# Altium schematic symbol library Schematic_MCU.SchLib: 7 symbols
Pins are listed as number, name and electrical type; pins without a type are passive.

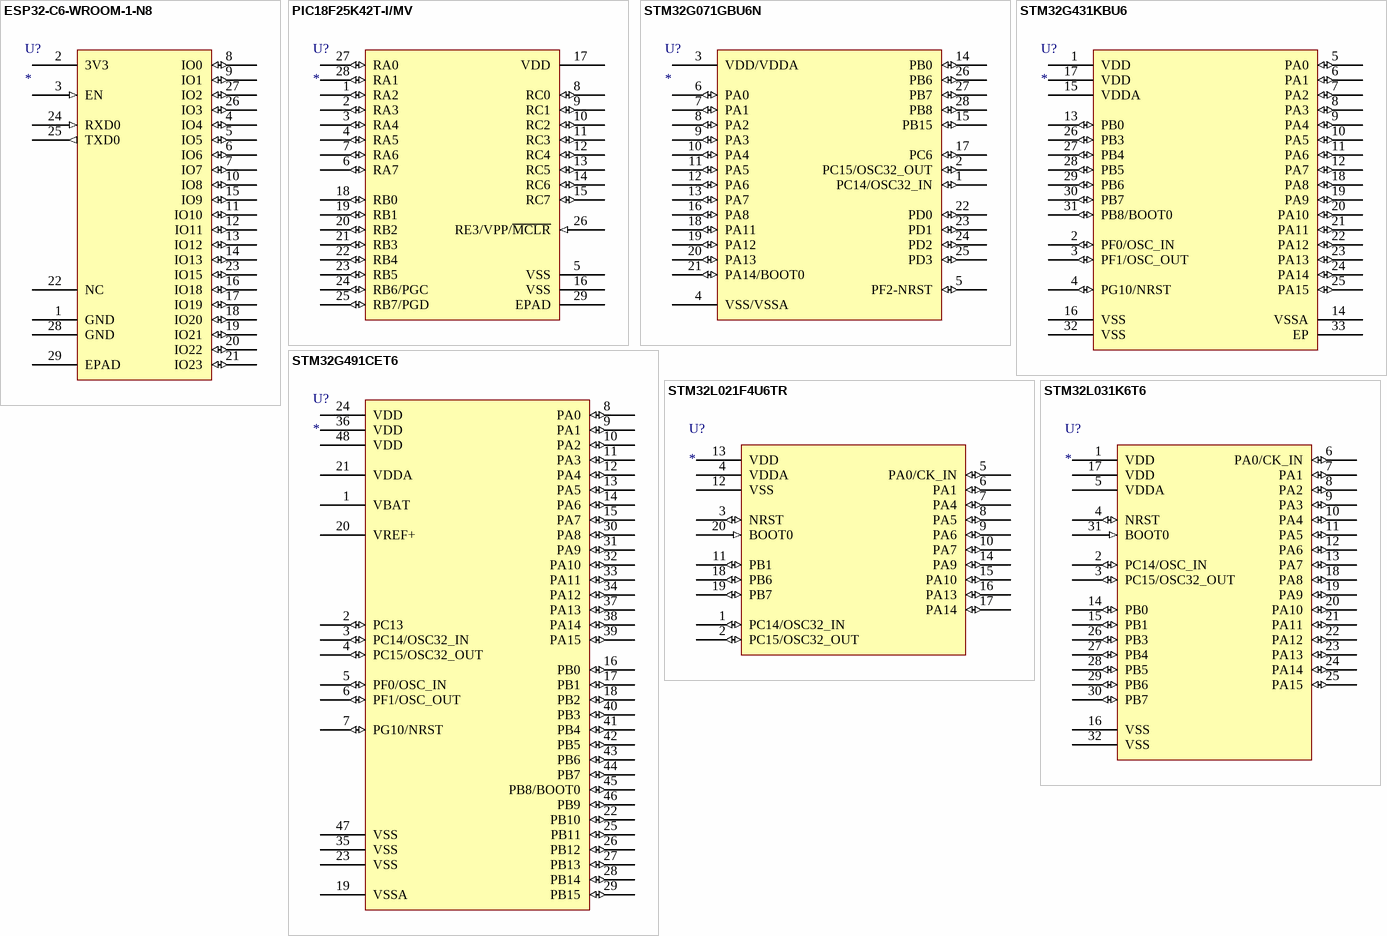
[diagram p0: symbols ESP32-C6-WROOM-1-N8 to STM32L031K6T6]

## ESP32-C6-WROOM-1-N8
designator U?
WiFi-Module 802.11 2, 4GHz 150Mb/s; Manufacturer: Espressif Systems; Manufacturer Part Number: ESP32-C6-WROOM-1-N8; Supplier: DigiKey; Supplier Part Number: 1965-ESP32-C6-WROOM-1-N8CT-ND; Category: RF Transceiver Modules and Modems; Stock: 595; Pricing: 1=5.38, 10=4.66, 25=4.4084, 100=4.0625, 250=3.85516 (USD); ComponentLink1URL: https://datasheet.octopart.com:443/ESP32-C6-WROOM-1-N8-Espressif-Systems-datasheet-188867345.pdf?src-supplier=TME; ComponentLink1Description: https://datasheet.octopart.com:443/ESP32-C6-WROOM-1-N8-Espressif-Systems-datasheet-188867345.pdf?src-supplier=TME; ComponentLink2URL: https://datasheet.octopart.com:443/ESP32-C6-WROOM-1-N8-Espressif-Systems-datasheet-188867343.pdf?src-supplier=TME; ComponentLink2Description: https://datasheet.octopart.com:443/ESP32-C6-WROOM-1-N8-Espressif-Systems-datasheet-188867343.pdf?src-supplier=TME; ComponentLink3URL: https://datasheet.octopart.com:443/ESP32-C6-WROOM-1-N8-Espressif-Systems-datasheet-176782707.pdf?src-supplier=SOS+electronic; ComponentLink3Description: https://datasheet.octopart.com:443/ESP32-C6-WROOM-1-N8-Espressif-Systems-datasheet-176782707.pdf?src-supplier=SOS+electronic
footprint ESP32-C6-WROOM-1
pins: 1 GND (power), 2 3V3 (power), 3 EN (in), 4 IO4 (io), 5 IO5 (io), 6 IO6 (io), 7 IO7 (io), 8 IO0 (io), 9 IO1 (io), 10 IO8 (io), 11 IO10 (io), 12 IO11 (io), 13 IO12 (io), 14 IO13 (io), 15 IO9 (io), 16 IO18 (io), 17 IO19 (io), 18 IO20 (io), 19 IO21 (io), 20 IO22 (io), 21 IO23 (io), 22 NC, 23 IO15 (io), 24 RXD0 (in), 25 TXD0 (out), 26 IO3 (io), 27 IO2 (io), 28 GND (power), 29 EPAD

## PIC18F25K42T-I/MV
designator U?
IC MCU 8BIT 32KB FLASH 28UQFN; Manufacturer: Microchip; Manufacturer Part Number: PIC18F25K42T-I/MV; Supplier 1: Digi-Key; RoHS: No; Category: Microcontrollers; Stock 1: 180; Pricing 1: 1=1.62000, 25=1.48000, 100=1.34000 (USD)
footprint QFN40P400X400X55_HS-29N (QFN, 28-Leads, Body 4.00x4.00mm, Pitch 0.40mm, Thermal Pad 2.35x2.35mm, IPC Medium Density)
pins: 1 RA2 (io), 2 RA3 (io), 3 RA4 (io), 4 RA5 (io), 5 VSS (power), 6 RA7 (io), 7 RA6 (io), 8 RC0 (io), 9 RC1 (io), 10 RC2 (io), 11 RC3 (io), 12 RC4 (io), 13 RC5 (io), 14 RC6 (io), 15 RC7 (io), 16 VSS (power), 17 VDD (power), 18 RB0 (io), 19 RB1 (io), 20 RB2 (io), 21 RB3 (io), 22 RB4 (io), 23 RB5 (io), 24 RB6/PGC (io), 25 RB7/PGD (io), 26 RE3/VPP/~{MCLR} (in), 27 RA0 (io), 28 RA1 (io), 29 EPAD

## STM32G071GBU6N
designator U?
16/32-BITS MICROS; Manufacturer: STMicroelectronics; Manufacturer Part Number: STM32G071GBU6N; Interface: I2C,SPI,USB,HDMI,IrDA,UART,USART; Peripherals: Brown-out Detect/Reset,POR,PWM,WDT,DMA; Memory Type: FLASH; Core Architecture: ARM; Frequency: 64MHz; Number of I/Os: 26; Memory Size: 128KB; Oscillator Type: Internal; Supplier 1: Digi-Key; RoHS: No; Stock 1: 1441; Pricing 1: 1=2.70000, 10=2.42100, 25=2.28880, 100=1.98350, 250=1.88184, 500=1.68856, 1000=1.42408, 2500=1.35288, 5000=1.30202 (USD); Case/Package: UFQFPN; Number of Pins: 28; Min Operating Temperature: -40°C; Max Operating Temperature: 85°C; Packaging: Tape and Reel; ComponentLink1URL: https://www.st.com/resource/en/datasheet/stm32g071cb.pdf?src-supplier=Digi-Key; ComponentLink1Description: https://www.st.com/resource/en/datasheet/stm32g071cb.pdf?src-supplier=Digi-Key
footprint QFN50P400X400X60-28N (QFN, 28-Leads, Body 4.00x4.00mm, Pitch 0.50mm, IPC Medium Density)
pins: 1 PC14/OSC32_IN (io), 2 PC15/OSC32_OUT (io), 3 VDD/VDDA (power), 4 VSS/VSSA (power), 5 PF2-NRST (io), 6 PA0 (io), 7 PA1 (io), 8 PA2 (io), 9 PA3 (io), 10 PA4 (io), 11 PA5 (io), 12 PA6 (io), 13 PA7 (io), 14 PB0 (io), 15 PB15 (io), 16 PA8 (io), 17 PC6 (io), 18 PA11 (io), 19 PA12 (io), 20 PA13 (io), 21 PA14/BOOT0 (io), 22 PD0 (io), 23 PD1 (io), 24 PD2 (io), 25 PD3 (io), 26 PB6 (io), 27 PB7 (io), 28 PB8 (io)

## STM32G431KBU6
designator U?
MCU 32-Bit ARM Cortex-M4 RISC 128KB Flash 1.71V to 3.6V 32-Pin UFQFPN; Manufacturer: STMicroelectronics; Manufacturer Part Number: STM32G431KBU6; Supplier 1: Digi-Key; RoHS: No; Stock 1: 2759; Pricing 1: 1=4.44000, 10=3.99100, 25=3.77320, 100=3.27000, 250=3.10228, 500=2.78366, 1000=2.34766, 2500=2.23028, 5000=2.14643 (USD)
footprint QFN50P500X500X60_HS-33N (QFN, 32-Leads, Body 5.00x5.00mm, Pitch 0.50mm, Thermal Pad 3.45x3.45mm, IPC Medium Density)
pins: 1 VDD (power), 2 PF0/OSC_IN (io), 3 PF1/OSC_OUT (io), 4 PG10/NRST (io), 5 PA0 (io), 6 PA1 (io), 7 PA2 (io), 8 PA3 (io), 9 PA4 (io), 10 PA5 (io), 11 PA6 (io), 12 PA7 (io), 13 PB0 (io), 14 VSSA (power), 15 VDDA (power), 16 VSS (power), 17 VDD (power), 18 PA8 (io), 19 PA9 (io), 20 PA10 (io), 21 PA11 (io), 22 PA12 (io), 23 PA13 (io), 24 PA14 (io), 25 PA15 (io), 26 PB3 (io), 27 PB4 (io), 28 PB5 (io), 29 PB6 (io), 30 PB7 (io), 31 PB8/BOOT0 (io), 32 VSS (power), 33 EP

## STM32G491CET6
designator U?
MCU 32-Bit ARM Cortex-M4 RISC 512kByte Flash 1.71V to 3.6V 48-Pin LQFP Tray; Manufacturer: STMicroelectronics; Manufacturer Part Number: STM32G491CET6; Supplier 1: Avnet; RoHS: No; Category: Microcontrollers; Stock 1: 340; Pricing 1: 1=8.55, 10=6.92, 25=6.13, 50=6.03, 100=5.93 (USD); ComponentLink1URL: https://datasheet.octopart.com/STM32G491CET6-STMicroelectronics-datasheet-151949616.pdf?src-supplier=Future+Electronics; ComponentLink1Description: https://datasheet.octopart.com/STM32G491CET6-STMicroelectronics-datasheet-151949616.pdf?src-supplier=Future+Electronics
footprint TSQFP50P900X900X160-48N (TSQFP, 48-Leads, Body 7.00x7.00mm, Pitch 0.50mm, IPC Medium Density)
pins: 1 VBAT (power), 2 PC13 (io), 3 PC14/OSC32_IN (io), 4 PC15/OSC32_OUT (io), 5 PF0/OSC_IN (io), 6 PF1/OSC_OUT (io), 7 PG10/NRST (io), 8 PA0 (io), 9 PA1 (io), 10 PA2 (io), 11 PA3 (io), 12 PA4 (io), 13 PA5 (io), 14 PA6 (io), 15 PA7 (io), 16 PB0 (io), 17 PB1 (io), 18 PB2 (io), 19 VSSA (power), 20 VREF+ (power), 21 VDDA (power), 22 PB10 (io), 23 VSS (power), 24 VDD (power), 25 PB11 (io), 26 PB12 (io), 27 PB13 (io), 28 PB14 (io), 29 PB15 (io), 30 PA8 (io), 31 PA9 (io), 32 PA10 (io), 33 PA11 (io), 34 PA12 (io), 35 VSS (power), 36 VDD (power), 37 PA13 (io), 38 PA14 (io), 39 PA15 (io), 40 PB3 (io), 41 PB4 (io), 42 PB5 (io), 43 PB6 (io), 44 PB7 (io), 45 PB8/BOOT0 (io), 46 PB9 (io), 47 VSS (power), 48 VDD (power)

## STM32L021F4U6TR
designator U?
MCU 32-Bit STM32L021x4 ARM Cortex M0+ RISC 16KB Flash 2.5V/3.3V 20-Pin UFQFPN T/R; Manufacturer: STMicroelectronics; Manufacturer Part Number: STM32L021F4U6TR; Supplier 1: Mouser; Stock 1: 77; Pricing 1: 1 = 1.94000, 10 = 1.65000, 100 = 1.32000, 500 = 1.16000, 1000 = 0.95600, 3000 = 0.89000 (USD); ComponentLink1URL: http://www.st.com/content/ccc/resource/technical/document/datasheet/86/a6/5f/95/33/50/4e/d6/DM00206858.pdf/files/DM00206858.pdf/jcr:content/translations/en.DM00206858.pdf?src-supplier=Digi-Key; ComponentLink1Description: http://www.st.com/content/ccc/resource/technical/document/datasheet/86/a6/5f/95/33/50/4e/d6/DM00206858.pdf/files/DM00206858.pdf/jcr:content/translations/en.DM00206858.pdf?src-supplier=Digi-Key; ComponentLink2URL: http://datasheet.octopart.com/STM32L021F4U6TR-STMicroelectronics-datasheet-62073766.pdf?src-supplier=STMicroelectronics; ComponentLink2Description: http://datasheet.octopart.com/STM32L021F4U6TR-STMicroelectronics-datasheet-62073766.pdf?src-supplier=STMicroelectronics; ComponentLink3URL: http://datasheet.octopart.com/STM32L021F4U6TR-STMicroelectronics-datasheet-62336774.pdf?src-supplier=STMicroelectronics; ComponentLink3Description: http://datasheet.octopart.com/STM32L021F4U6TR-STMicroelectronics-datasheet-62336774.pdf?src-supplier=STMicroelectronics
footprint QFN50P300X300X60-20N (QFN, 20-Leads, Body 3.00x3.00mm, Pitch 0.50mm, IPC Medium Density)
pins: 1 PC14/OSC32_IN (io), 2 PC15/OSC32_OUT (io), 3 NRST (io), 4 VDDA (power), 5 PA0/CK_IN (io), 6 PA1 (io), 7 PA4 (io), 8 PA5 (io), 9 PA6 (io), 10 PA7 (io), 11 PB1 (io), 12 VSS (power), 13 VDD (power), 14 PA9 (io), 15 PA10 (io), 16 PA13 (io), 17 PA14 (io), 18 PB6 (io), 19 PB7 (io), 20 BOOT0 (in)

## STM32L031K6T6
designator U?
IC MCU 32BIT 32KB FLASH 32LQFP; Manufacturer: STMicroelectronics; Manufacturer Part Number: STM32L031K6T6; Interface: I2C,SPI,UART; Peripherals: Brown-out Detect/Reset,POR,PWM,WDT,DMA; Core Architecture: ARM; Frequency: 32MHz; Number of I/Os: 38; Oscillator Type: Internal; Data Bus Width: 32b; RAM Size: 8KB; Number of ADC Channels: 10; Max Supply Voltage: 3.6V; Min Supply Voltage: 1.65V; Supplier 1: Digi-Key; RoHS: No; Category: Microcontrollers; Stock 1: 2299; Pricing 1: 1=3.29000, 10=2.95300, 25=2.78600, 100=2.37360, 250=2.22872, 500=1.95012, 1500=1.61581, 3000=1.50437, 6000=1.44866 (USD); Case/Package: LQFP; Min Operating Temperature: -40°C; Max Operating Temperature: 85°C; Memory Type: FLASH; Packaging: Tray; Memory Size: 32KB; Max Frequency: 32MHz; Package Quantity: 1500; ComponentLink1URL: https://datasheet.ciiva.com/70238/en-dm00140359-70238919.pdf?src-supplier=Digi-Key; ComponentLink1Description: https://datasheet.ciiva.com/70238/en-dm00140359-70238919.pdf?src-supplier=Digi-Key
footprint TQFP80P900X900X160-32N (TQFP, 32-Leads, Body 7.00x7.00mm, Pitch 0.80mm, IPC Medium Density)
pins: 1 VDD (power), 2 PC14/OSC_IN (io), 3 PC15/OSC32_OUT (io), 4 NRST (io), 5 VDDA (power), 6 PA0/CK_IN (io), 7 PA1 (io), 8 PA2 (io), 9 PA3 (io), 10 PA4 (io), 11 PA5 (io), 12 PA6 (io), 13 PA7 (io), 14 PB0 (io), 15 PB1 (io), 16 VSS (power), 17 VDD (power), 18 PA8 (io), 19 PA9 (io), 20 PA10 (io), 21 PA11 (io), 22 PA12 (io), 23 PA13 (io), 24 PA14 (io), 25 PA15 (io), 26 PB3 (io), 27 PB4 (io), 28 PB5 (io), 29 PB6 (io), 30 PB7 (io), 31 BOOT0 (in), 32 VSS (power)